# Altium schematic symbol library USBHUB.SchLib: 2 symbols
Pins are listed as number, name and electrical type; pins without a type are passive.

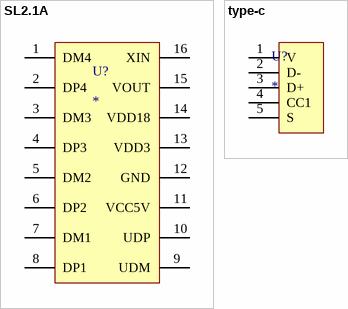
[diagram p0: symbols SL2.1A to type-c]

## SL2.1A
designator U?
pins: 1 DM4, 2 DP4, 3 DM3, 4 DP3, 5 DM2, 6 DP2, 7 DM1, 8 DP1, 9 UDM, 10 UDP, 11 VCC5V, 12 GND, 13 VDD3, 14 VDD18, 15 VOUT, 16 XIN

## type-c
designator U?
pins: 1 V, 2 D-, 3 D+, 4 CC1, 5 S